# Altium footprint library 686 1xx 141 22.PcbLib: 16 footprints
Each footprint in its own frame and in the unit in brackets; x right, y up, seen from the top. Pads: shape width x height; smd on the part's side, far side on the other; paste and mask are expansions set on the pad; w line width, h text height; cw(c..) or ccw(c..) is an arc to the next point about the centre after c.
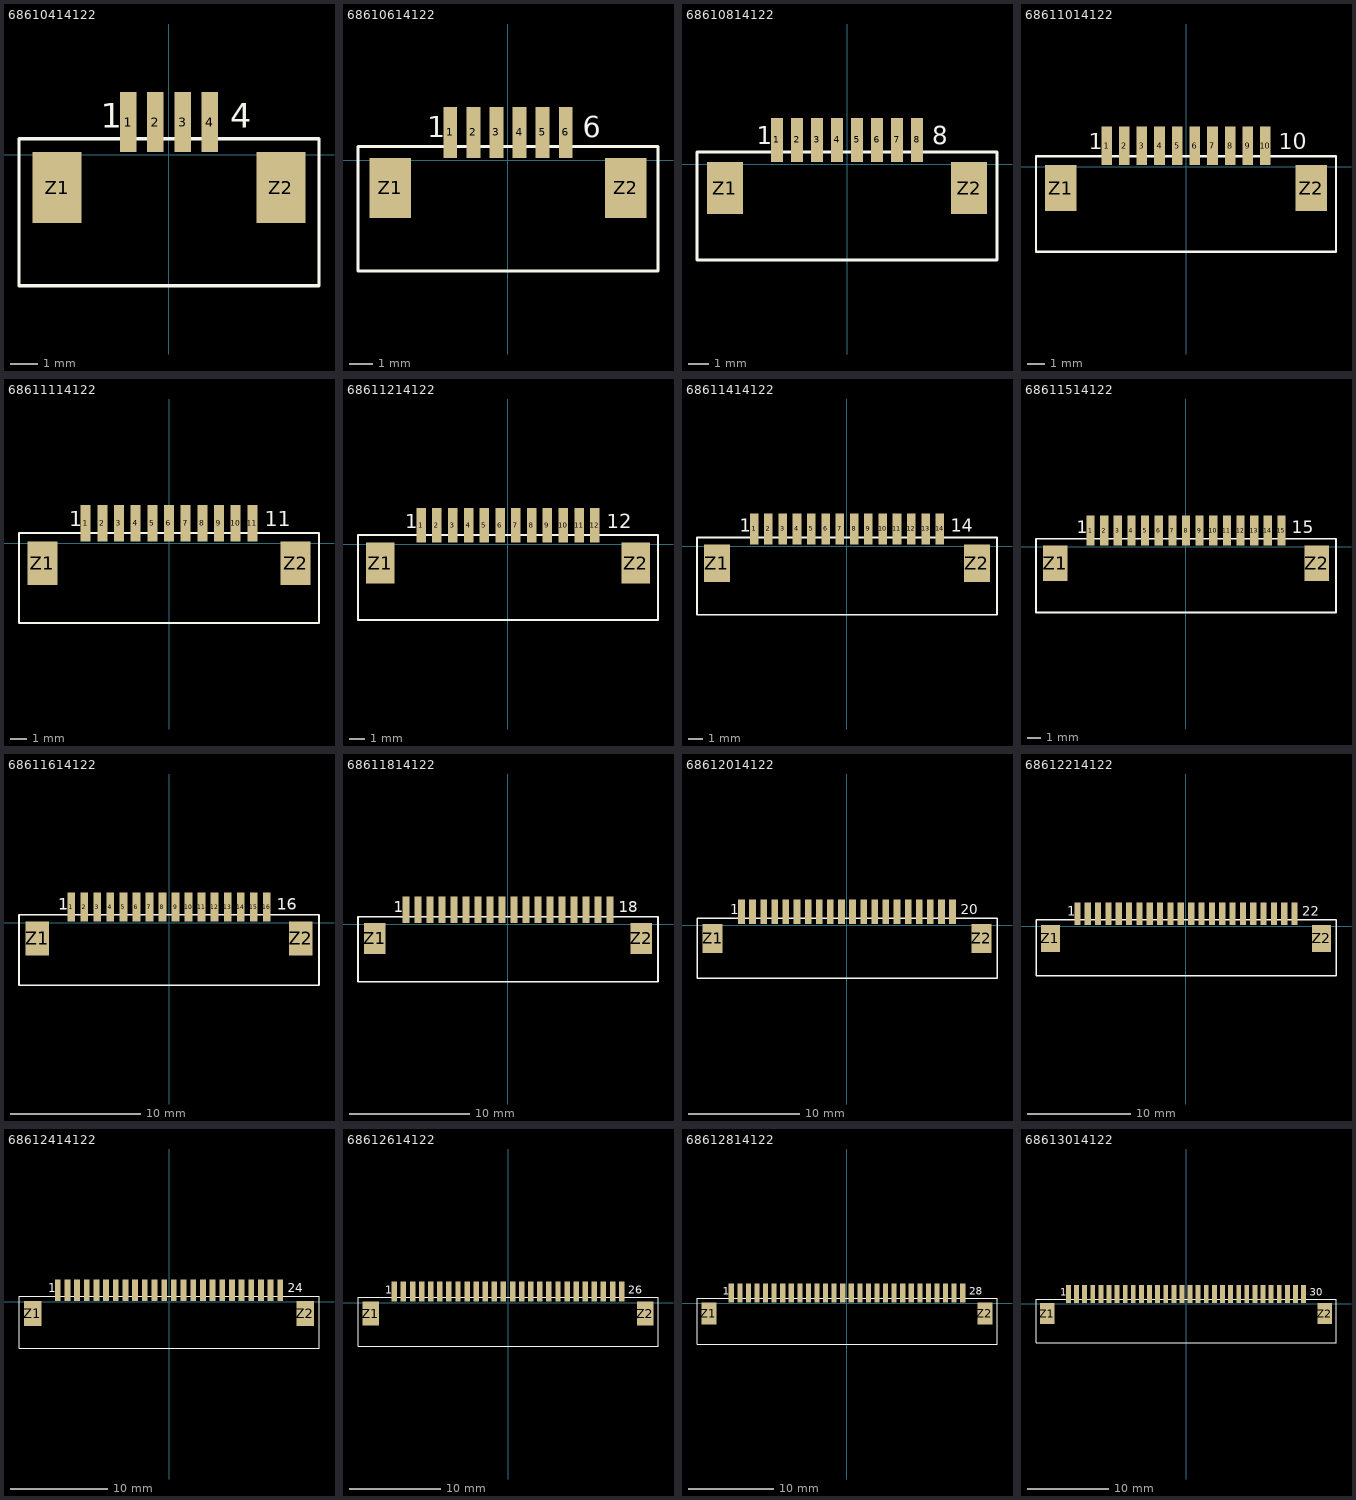
[diagram p0: the footprints below, top view; thin cyan lines are the x and y axes]

## 68610414122 [mm] "4 pins"
height 2.95
pads (6):
  rect 0.6x2.2 smd: 1(-1.5,1.2) 2(-0.5,1.2) 3(0.5,1.2) 4(1.5,1.2)
  rect 1.8x2.6 smd: Z1(-4.1,-1.2) Z2(4.1,-1.2)
Top Overlay:
  lines w0.127: -5.5,-4.8 -5.5,0.6 5.5,0.6 5.5,-4.8 -5.5,-4.8
  text "4" at 2.25,1 h0.9
  text "1" at -2.5,1 h0.9
3D body: height 2.97, standoff -0.03, extent -5.5,-4.8 5.5,2.3

## 68610614122 [mm] "6 pins"
height 2.95
pads (8):
  rect 0.6x2.2 smd: 1(-2.5,1.2) 2(-1.5,1.2) 3(-0.5,1.2) 4(0.5,1.2) 5(1.5,1.2) 6(2.5,1.2)
  rect 1.8x2.6 smd: Z1(-5.1,-1.2) Z2(5.1,-1.2)
Top Overlay:
  lines w0.127: -6.5,-4.8 6.5,-4.8 6.5,0.6 -6.5,0.6 -6.5,-4.8
  text "6" at 3.25,1 h0.9
  text "1" at -3.5,1 h0.9
3D body: height 2.97, standoff -0.03, extent -6.5,-4.8 6.5,2.3

## 68610814122 [mm] "8 pins"
height 2.95
pads (10):
  rect 0.6x2.2 smd: 1(-3.5,1.2) 2(-2.5,1.2) 3(-1.5,1.2) 4(-0.5,1.2) 5(0.5,1.2) 6(1.5,1.2) 7(2.5,1.2) 8(3.5,1.2)
  rect 1.8x2.6 smd: Z1(-6.1,-1.2) Z2(6.1,-1.2)
Top Overlay:
  lines w0.127: -7.5,-4.8 7.5,-4.8 7.5,0.6 -7.5,0.6 -7.5,-4.8
  text "1" at -4.5,1 h0.9
  text "8" at 4.25,1 h0.9
3D body: height 2.97, standoff -0.03, extent -7.5,-4.8 7.5,2.3

## 68611014122 [mm] "10 pins"
height 2.95
pads (12):
  rect 0.6x2.2 smd: 1(-4.5,1.2) 2(-3.5,1.2) 3(-2.5,1.2) 4(-1.5,1.2) 5(-0.5,1.2) 6(0.5,1.2) 7(1.5,1.2) 8(2.5,1.2) 9(3.5,1.2) 10(4.5,1.2)
  rect 1.8x2.6 smd: Z1(-7.1,-1.2) Z2(7.1,-1.2)
Top Overlay:
  lines w0.127: -8.5,-4.8 -8.5,0.6 8.5,0.6 8.5,-4.8 -8.5,-4.8
  text "10" at 5.25,1 h0.9
  text "1" at -5.5,1 h0.9
3D body: height 2.97, standoff -0.03, extent -8.5,-4.8 8.5,2.3

## 68611114122 [mm] "11 pins"
height 2.95
pads (13):
  rect 0.6x2.2 smd: 1(-5,1.2) 2(-4,1.2) 3(-3,1.2) 4(-2,1.2) 5(-1,1.2) 6(0,1.2) 7(1,1.2) 8(2,1.2) 9(3,1.2) 10(4,1.2) 11(5,1.2)
  rect 1.8x2.6 smd: Z1(-7.6,-1.2) Z2(7.6,-1.2)
Top Overlay:
  lines w0.127: -9,-4.8 -9,0.6 9,0.6 9,-4.8 -9,-4.8
  text "11" at 5.75,1 h0.9
  text "1" at -6,1 h0.9
3D body: height 2.97, standoff -0.03, extent -9,-4.8 9,2.3

## 68611214122 [mm] "12 pins"
height 2.95
pads (14):
  rect 0.6x2.2 smd: 1(-5.5,1.2) 2(-4.5,1.2) 3(-3.5,1.2) 4(-2.5,1.2) 5(-1.5,1.2) 6(-0.5,1.2) 7(0.5,1.2) 8(1.5,1.2) 9(2.5,1.2) 10(3.5,1.2) 11(4.5,1.2) 12(5.5,1.2)
  rect 1.8x2.6 smd: Z1(-8.1,-1.2) Z2(8.1,-1.2)
Top Overlay:
  lines w0.127: -9.5,-4.8 9.5,-4.8 9.5,0.6 -9.5,0.6 -9.5,-4.8
  text "12" at 6.25,1 h0.9
  text "1" at -6.5,1 h0.9
3D body: height 2.97, standoff -0.03, extent -9.5,-4.8 9.5,2.3

## 68611414122 [mm] "14 pins"
height 2.95
pads (16):
  rect 0.6x2.2 smd: 1(-6.5,1.2) 2(-5.5,1.2) 3(-4.5,1.2) 4(-3.5,1.2) 5(-2.5,1.2) 6(-1.5,1.2) 7(-0.5,1.2) 8(0.5,1.2) 9(1.5,1.2) 10(2.5,1.2) 11(3.5,1.2) 12(4.5,1.2) 13(5.5,1.2) 14(6.5,1.2)
  rect 1.8x2.6 smd: Z1(-9.1,-1.2) Z2(9.1,-1.2)
Top Overlay:
  lines w0.127: -10.5,-4.8 10.5,-4.8 10.5,0.6 -10.5,0.6 -10.5,-4.8
  text "14" at 7.25,1 h0.9
  text "1" at -7.5,1 h0.9
3D body: height 2.97, standoff -0.03, extent -10.5,-4.8 10.5,2.3

## 68611514122 [mm] "15 pins"
height 2.95
pads (17):
  rect 0.6x2.2 smd: 1(-7,1.2) 2(-6,1.2) 3(-5,1.2) 4(-4,1.2) 5(-3,1.2) 6(-2,1.2) 7(-1,1.2) 8(0,1.2) 9(1,1.2) 10(2,1.2) 11(3,1.2) 12(4,1.2) 13(5,1.2) 14(6,1.2) 15(7,1.2)
  rect 1.8x2.6 smd: Z1(-9.6,-1.2) Z2(9.6,-1.2)
Top Overlay:
  lines w0.127: -11,-4.8 11,-4.8 11,0.6 -11,0.6 -11,-4.8
  text "15" at 7.75,1 h0.9
  text "1" at -8,1 h0.9
3D body: height 2.97, standoff -0.03, extent -11,-4.8 11,2.3

## 68611614122 [mm] "16 pins"
height 2.95
pads (18):
  rect 0.6x2.2 smd: 1(-7.5,1.2) 2(-6.5,1.2) 3(-5.5,1.2) 4(-4.5,1.2) 5(-3.5,1.2) 6(-2.5,1.2) 7(-1.5,1.2) 8(-0.5,1.2) 9(0.5,1.2) 10(1.5,1.2) 11(2.5,1.2) 12(3.5,1.2) 13(4.5,1.2) 14(5.5,1.2) 15(6.5,1.2) 16(7.5,1.2)
  rect 1.8x2.6 smd: Z1(-10.1,-1.2) Z2(10.1,-1.2)
Top Overlay:
  lines w0.127: -11.5,-4.8 -11.5,0.6 11.5,0.6 11.5,-4.8 -11.5,-4.8
  text "16" at 8.25,1 h0.9
  text "1" at -8.5,1 h0.9
3D body: height 2.97, standoff -0.03, extent -11.5,-4.8 11.5,2.3

## 68611814122 [mm] "18 pins"
height 2.95
pads (20):
  rect 0.6x2.2 smd: 1(-8.5,1.2) 2(-7.5,1.2) 3(-6.5,1.2) 4(-5.5,1.2) 5(-4.5,1.2) 6(-3.5,1.2) 7(-2.5,1.2) 8(-1.5,1.2) 9(-0.5,1.2) 10(0.5,1.2) 11(1.5,1.2) 12(2.5,1.2) 13(3.5,1.2) 14(4.5,1.2) 15(5.5,1.2) 16(6.5,1.2) 17(7.5,1.2) 18(8.5,1.2)
  rect 1.8x2.6 smd: Z1(-11.1,-1.2) Z2(11.1,-1.2)
Top Overlay:
  lines w0.127: -12.5,-4.8 -12.5,0.6 12.5,0.6 12.5,-4.8 -12.5,-4.8
  text "18" at 9.25,1 h0.9
  text "1" at -9.5,1 h0.9
3D body: height 2.97, standoff -0.03, extent -12.5,-4.8 12.5,2.3

## 68612014122 [mm] "20 pins"
height 2.95
pads (22):
  rect 0.6x2.2 smd: 1(-9.5,1.2) 2(-8.5,1.2) 3(-7.5,1.2) 4(-6.5,1.2) 5(-5.5,1.2) 6(-4.5,1.2) 7(-3.5,1.2) 8(-2.5,1.2) 9(-1.5,1.2) 10(-0.5,1.2) 11(0.5,1.2) 12(1.5,1.2) 13(2.5,1.2) 14(3.5,1.2) 15(4.5,1.2) 16(5.5,1.2) 17(6.5,1.2) 18(7.5,1.2) 19(8.5,1.2) 20(9.5,1.2)
  rect 1.8x2.6 smd: Z1(-12.1,-1.2) Z2(12.1,-1.2)
Top Overlay:
  lines w0.127: -13.5,-4.8 -13.5,0.6 13.5,0.6 13.5,-4.8 -13.5,-4.8
  text "20" at 10.25,1 h0.9
  text "1" at -10.5,1 h0.9
3D body: height 2.97, standoff -0.03, extent -13.5,-4.8 13.5,2.3

## 68612214122 [mm] "22 pins"
height 2.95
pads (24):
  rect 0.6x2.2 smd: 1(-10.5,1.2) 2(-9.5,1.2) 3(-8.5,1.2) 4(-7.5,1.2) 5(-6.5,1.2) 6(-5.5,1.2) 7(-4.5,1.2) 8(-3.5,1.2) 9(-2.5,1.2) 10(-1.5,1.2) 11(-0.5,1.2) 12(0.5,1.2) 13(1.5,1.2) 14(2.5,1.2) 15(3.5,1.2) 16(4.5,1.2) 17(5.5,1.2) 18(6.5,1.2) 19(7.5,1.2) 20(8.5,1.2) 21(9.5,1.2) 22(10.5,1.2)
  rect 1.8x2.6 smd: Z1(-13.1,-1.2) Z2(13.1,-1.2)
Top Overlay:
  lines w0.127: -14.5,-4.8 14.5,-4.8 14.5,0.6 -14.5,0.6 -14.5,-4.8
  text "22" at 11.25,1 h0.9
  text "1" at -11.5,1 h0.9
3D body: height 2.97, standoff -0.03, extent -14.5,-4.8 14.5,2.3

## 68612414122 [mm] "24 pins"
height 2.95
pads (26):
  rect 0.6x2.2 smd: 1(-11.5,1.2) 2(-10.5,1.2) 3(-9.5,1.2) 4(-8.5,1.2) 5(-7.5,1.2) 6(-6.5,1.2) 7(-5.5,1.2) 8(-4.5,1.2) 9(-3.5,1.2) 10(-2.5,1.2) 11(-1.5,1.2) 12(-0.5,1.2) 13(0.5,1.2) 14(1.5,1.2) 15(2.5,1.2) 16(3.5,1.2) 17(4.5,1.2) 18(5.5,1.2) 19(6.5,1.2) 20(7.5,1.2) 21(8.5,1.2) 22(9.5,1.2) 23(10.5,1.2) 24(11.5,1.2)
  rect 1.8x2.6 smd: Z1(-14.1,-1.2) Z2(14.1,-1.2)
Top Overlay:
  lines w0.127: -15.5,-4.8 15.5,-4.8 15.5,0.6 -15.5,0.6 -15.5,-4.8
  text "24" at 12.25,1 h0.9
  text "1" at -12.5,1 h0.9
3D body: height 2.97, standoff -0.03, extent -15.5,-4.8 15.5,2.3

## 68612614122 [mm] "26 pins"
height 2.95
pads (28):
  rect 0.6x2.2 smd: 1(-12.5,1.2) 2(-11.5,1.2) 3(-10.5,1.2) 4(-9.5,1.2) 5(-8.5,1.2) 6(-7.5,1.2) 7(-6.5,1.2) 8(-5.5,1.2) 9(-4.5,1.2) 10(-3.5,1.2) 11(-2.5,1.2) 12(-1.5,1.2) 13(-0.5,1.2) 14(0.5,1.2) 15(1.5,1.2) 16(2.5,1.2) 17(3.5,1.2) 18(4.5,1.2) 19(5.5,1.2) 20(6.5,1.2) 21(7.5,1.2) 22(8.5,1.2) 23(9.5,1.2) 24(10.5,1.2) 25(11.5,1.2) 26(12.5,1.2)
  rect 1.8x2.6 smd: Z1(-15.1,-1.2) Z2(15.1,-1.2)
Top Overlay:
  lines w0.127: -16.5,-4.8 -16.5,0.6 16.5,0.6 16.5,-4.8 -16.5,-4.8
  text "26" at 13.25,1 h0.9
  text "1" at -13.5,1 h0.9
3D body: height 2.97, standoff -0.03, extent -16.5,-4.8 16.5,2.3

## 68612814122 [mm] "28 pins"
height 2.95
pads (30):
  rect 0.6x2.2 smd: 1(-13.5,1.2) 2(-12.5,1.2) 3(-11.5,1.2) 4(-10.5,1.2) 5(-9.5,1.2) 6(-8.5,1.2) 7(-7.5,1.2) 8(-6.5,1.2) 9(-5.5,1.2) 10(-4.5,1.2) 11(-3.5,1.2) 12(-2.5,1.2) 13(-1.5,1.2) 14(-0.5,1.2) 15(0.5,1.2) 16(1.5,1.2) 17(2.5,1.2) 18(3.5,1.2) 19(4.5,1.2) 20(5.5,1.2) 21(6.5,1.2) 22(7.5,1.2) 23(8.5,1.2) 24(9.5,1.2) 25(10.5,1.2) 26(11.5,1.2) 27(12.5,1.2) 28(13.5,1.2)
  rect 1.8x2.6 smd: Z1(-16.1,-1.2) Z2(16.1,-1.2)
Top Overlay:
  lines w0.127: -17.5,-4.8 -17.5,0.6 17.5,0.6 17.5,-4.8 -17.5,-4.8
  text "28" at 14.25,1 h0.9
  text "1" at -14.5,1 h0.9
3D body: height 2.97, standoff -0.03, extent -17.5,-4.8 17.5,2.3

## 68613014122 [mm] "30 pins"
height 2.95
pads (32):
  rect 0.6x2.2 smd: 1(-14.5,1.2) 2(-13.5,1.2) 3(-12.5,1.2) 4(-11.5,1.2) 5(-10.5,1.2) 6(-9.5,1.2) 7(-8.5,1.2) 8(-7.5,1.2) 9(-6.5,1.2) 10(-5.5,1.2) 11(-4.5,1.2) 12(-3.5,1.2) 13(-2.5,1.2) 14(-1.5,1.2) 15(-0.5,1.2) 16(0.5,1.2) 17(1.5,1.2) 18(2.5,1.2) 19(3.5,1.2) 20(4.5,1.2) 21(5.5,1.2) 22(6.5,1.2) 23(7.5,1.2) 24(8.5,1.2) 25(9.5,1.2) 26(10.5,1.2) 27(11.5,1.2) 28(12.5,1.2) 29(13.5,1.2) 30(14.5,1.2)
  rect 1.8x2.6 smd: Z1(-17.1,-1.2) Z2(17.1,-1.2)
Top Overlay:
  lines w0.127: -18.5,-4.8 18.5,-4.8 18.5,0.6 -18.5,0.6 -18.5,-4.8
  text "30" at 15.25,1 h0.9
  text "1" at -15.5,1 h0.9
3D body: height 2.97, standoff -0.03, extent -18.5,-4.8 18.5,2.3